# Altium schematic symbol library std.SchLib: 23 symbols
Pins are listed as number, name and electrical type; pins without a type are passive.

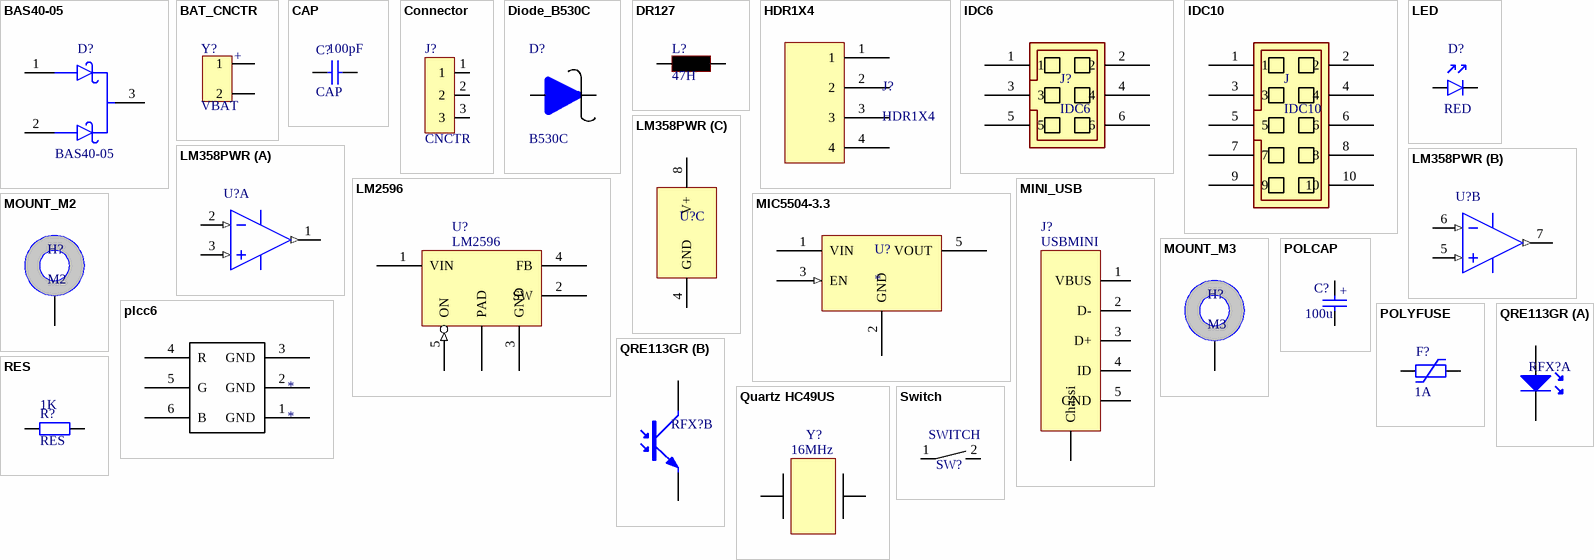
[diagram p0: symbols BAS40-05 to Switch]

## BAS40-05
designator D?
footprint SOT23
pins: 1 A1, 2 A2, 3 K

## BAT_CNCTR
designator Y?, comment VBAT
2-pin batteri kontakt
footprint BAT_CNCTR
pins: 1, 2
text: +

## CAP
designator C?  value 100pF
Capacitor; Published: 8-Jun-2000; LatestRevisionDate: 17-Jul-2002; LatestRevisionNote: Re-released for DXP Platform.; PackageReference: RB7.6-15; Publisher: Altium Limited; PackageDescription: Polarized Capacitor (Radial); 2 Leads
footprint CAPC1608X08M (Chip Capacitor, 2-Leads, Body 1,60x0,80mm, IPC Low Density)
footprint CAPC2012X11M (Chip Capacitor, 2-Leads, Body 2,00x1,25mm, IPC Low Density)
footprint CAPC3216X14M (Chip Capacitor, 2-Leads, Body 3,20x1,60mm, IPC Low Density)
footprint CAP_FAT (Feta kondingar)
pins: 1, 2
1 alternate drawing of the same symbol

## Connector
designator J?, comment CNCTR
3pin connector
footprint CNCTR_1X3 (3-pin connector)
pins: 1, 2, 3

## Diode_B530C
designator D?, comment B530C
footprint Diode_B530C (Schottky barrier rectifier)
pins: 1, 2

## DR127
designator L?, comment 47H
footprint DR127 (spole)
pins: 1, 2

## HDR1X4
designator J?
4pin header
footprint HEADER_1X4
pins: 1, 2, 3, 4

## IDC6
designator J?
6pin IDC connector
footprint IDC6
pins: 1, 2, 3, 4, 5, 6

## IDC10
designator J
10pin IDC connector
footprint IDC10
pins: 1, 2, 3, 4, 5, 6, 7, 8, 9, 10

## LED
designator D?, comment RED
footprint RESC1608X06M (Chip Resistor, 2-Leads, Body 1,60x0,82mm, IPC Low Density)
footprint RESC2012X07M (Chip Resistor, 2-Leads, Body 2,00x1,25mm, IPC Low Density)
footprint RESC3216X07M (Chip Resistor, 2-Leads, Body 3,20x1,60mm, IPC Low Density)
pins: 1 A1, 2 K

## LM358PWR
designator U?
Low Power Dual Operational Amplifier, 8-pin Narrow SOIC; PartNumber: LM358AM; Manufacturer: National Semiconductor; PackageTopMarking: NSZXTT*LM*358AM; PowerWise: N; CompType: Amplifiers; Published: 4-Dec-2008; LatestRevisionDate: 13-Jan-2009; LatestRevisionNote: Sim Model Added.; DatasheetVersion: Oct-2005; PackageVersion: revM, May-2009; PackageReference: M08A; Publisher: Altium Limited; PackageDescription: SOIC Narrow, 4.9 x 3.9 x 1.45mm, 8 Lead, 1.27mm Pitch; Supplier 1: Farnell; Supplier Part Number 1: 9486801; RoHS: N; PinCount: 8; Code_JEDEC: MS-012-AA; Code_IPC: SOIC127P600-8; ComponentLink1Description: LM358 Datasheet; ComponentLink1URL: http://www.national.com/ds/LM/LM358.pdf; ComponentLink2Description: LM358 Web Page; ComponentLink2URL: http://www.national.com/pf/LM/LM358.html; ComponentLink3Description: M08A Package Page; ComponentLink3URL: http://www.national.com/packaging/folders/m08a.html
footprint M08A_N (SOIC, 8-Leads, Body 4.9x3.9mm, Pitch 1.27mm, IPC Medium Density)
footprint M08A_L (SOIC, 8-Leads, Body 4.9x3.9mm, Pitch 1.27mm, IPC High Density)
footprint M08A_M (SOIC, 8-Leads, Body 4.9x3.9mm, Pitch 1.27mm, IPC Low Density)
simulation model LM358 (SUBCKT)
footprint TSSOP8 (TSOP, 8-Leads, Body 3,00x4,40mm, Pitch 0,65mm, IPC Medium Density)
footprint SOIC8 (SOIC, 8-Leads, Body 4,89x3,94mm, Pitch 1,27mm, IPC Medium Density)
part A pins: 1 OUTA (out), 2 INA- (in), 3 INA+ (in)
part B pins: 5 INB+ (in), 6 INB- (in), 7 OUTB (out)
part C pins: 4 GND (power), 8 V+ (power)

## LM2596
designator U?
footprint TO263
pins: 1 VIN (power), 2 SW (power), 3 GND (power), 4 FB (power), 5 ON (in), PAD (power)

## MIC5504-3.3
designator U?
footprint SOT23-5
pins: 1 VIN (power), 2 GND (power), 3 EN (in), 5 VOUT (power)

## MINI_USB
designator J?, comment USBMINI
footprint MINI_USB
pins: 1 VBUS, 2 D-, 3 D+, 4 ID, 5 GND, C Chassi

## MOUNT_M2
designator H?, comment M2
footprint MOUNT_M2
pins: 1

## MOUNT_M3
designator H?, comment M3
footprint MOUNT_M3
pins: 1

## plcc6
designator *
footprint plcc6
pins: 1 GND, 2 GND, 3 GND, 4 R, 5 G, 6 B

## POLCAP
designator C?, comment 100u
footprint CAP_FAT (Feta kondingar)
pins: 1, 2
text: +

## POLYFUSE
designator F?  value 1A  (hidden comment: POLYFUSE)
Published: 8-Jun-2000; LatestRevisionDate: 17-Jul-2002; LatestRevisionNote: Re-released for DXP Platform.; PackageReference: AXIAL-0.4; Publisher: Altium Limited; PackageDescription: Axial Device, Thru-Hole; 2 Leads; 0.4 in Pin Spacing
footprint RESC1608X06M (Chip Resistor, 2-Leads, Body 1,60x0,82mm, IPC Low Density)
footprint RESC2012X07M (Chip Resistor, 2-Leads, Body 2,00x1,25mm, IPC Low Density)
footprint RESC3216X07M (Chip Resistor, 2-Leads, Body 3,20x1,60mm, IPC Low Density)
pins: 1, 2

## QRE113GR
designator RFX?
SMT Reflective Object Sensor
footprint RFX4 (SOP, 4-Leads, Body 3,40x2,70mm, Pitch 1,80mm, IPC Medium Density)
part A pins: 1 A, 2 K
part B pins: 3 C, 4 E

## Quartz HC49US
designator Y?, comment 16MHz
footprint Quartz_HC49US (16MHz kristall)
pins: 1, 2

## RES
designator R?  value 1K
Resistor; Published: 8-Jun-2000; LatestRevisionDate: 17-Jul-2002; LatestRevisionNote: Re-released for DXP Platform.; PackageReference: AXIAL-0.4; Publisher: Altium Limited; PackageDescription: Axial Device, Thru-Hole; 2 Leads; 0.4 in Pin Spacing
simulation model RESISTOR (Resistor)
signal-integrity model Res
footprint RESC1608X06M (Chip Resistor, 2-Leads, Body 1,60x0,82mm, IPC Low Density)
footprint RESC2012X07M (Chip Resistor, 2-Leads, Body 2,00x1,25mm, IPC Low Density)
footprint RESC3216X07M (Chip Resistor, 2-Leads, Body 3,20x1,60mm, IPC Low Density)
pins: 1, 2

## Switch
designator SW?, comment SWITCH
footprint Switch_pad
pins: 1, 2